# EAGLE library part MEGA*8- (library VgaGen)
8-bit-Mikrocontroller 8bit, 16MHz, Harvard 4/8/16 Kbyte FLASH (schreibbar durch Firmware) 1 KByte RAM 0,5 KByte EEPROM 1x UART, 8 Kanal 10-bit-ADU, 2x Timer, I²C, SPI Achtung! Reduziertes Schaltbild nur passend für VGA-Testbildgenerator
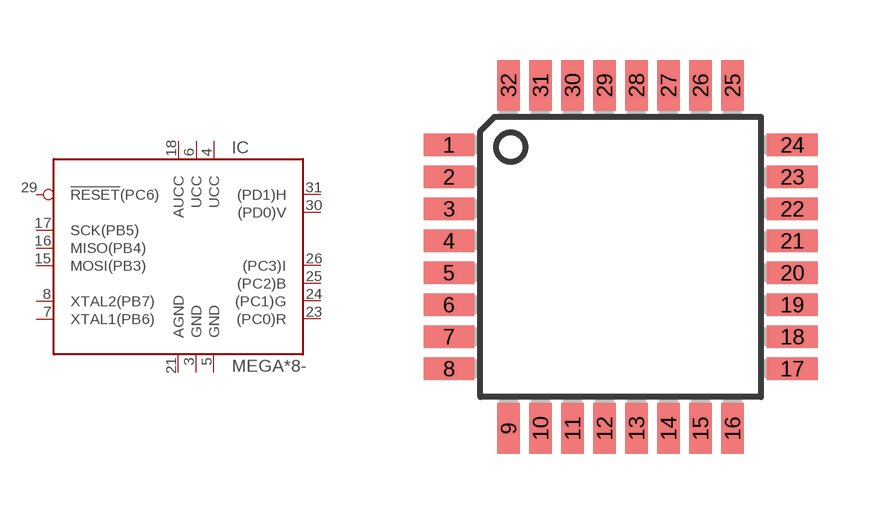
[diagram p1: symbol with the pads of TQFP32-08; footprint TQFP32-08]

Designator prefix IC

## MEGA168-TQ, MEGA48-TQ, MEGA88-TQ  [TQFP32-08]
3  GND  pwr
4  UCC  pwr
5  GND  pwr
6  UCC  pwr
7  XTAL1(PB6)  in
8  XTAL2(PB7)  out
15  MOSI(PB3)  in
16  MISO(PB4)  out
17  SCK(PB5)  in
18  AUCC  pwr
21  AGND  pwr
23  (PC0)R  out
24  (PC1)G  out
25  (PC2)B  out
26  (PC3)I  out
29  !RESET!(PC6)  in
30  (PD0)V  out
31  (PD1)H  out

## Footprint TQFP32-08 (pad centres in mm)
SMD-Gehäuse quadratisch, e=0.8
smd 1.27 x 0.559: 1 -4.293,2.8; 2 -4.293,2; 3 -4.293,1.2; 4 -4.293,0.4; 5 -4.293,-0.4; 6 -4.293,-1.2; 7 -4.293,-2; 8 -4.293,-2.8; 17 4.293,-2.8; 18 4.293,-2; 19 4.293,-1.2; 20 4.293,-0.4; 21 4.293,0.4; 22 4.293,1.2; 23 4.293,2; 24 4.293,2.8
smd 0.559 x 1.27: 9 -2.8,-4.293; 10 -2,-4.293; 11 -1.2,-4.293; 12 -0.4,-4.293; 13 0.4,-4.293; 14 1.2,-4.293; 15 2,-4.293; 16 2.8,-4.293; 25 2.8,4.293; 26 2,4.293; 27 1.2,4.293; 28 0.4,4.293; 29 -0.4,4.293; 30 -1.2,4.293; 31 -2,4.293; 32 -2.8,4.293